# EAGLE library part RJ45-8P8C (library A10 Library)
PCB RJ45 8P8C Femlae Jack/Socket Connector 180 degree vertical https://www.aliexpress.com/item/32918645271.html?spm=a2g0o.order_list.0.0.49471802RMJK7Q
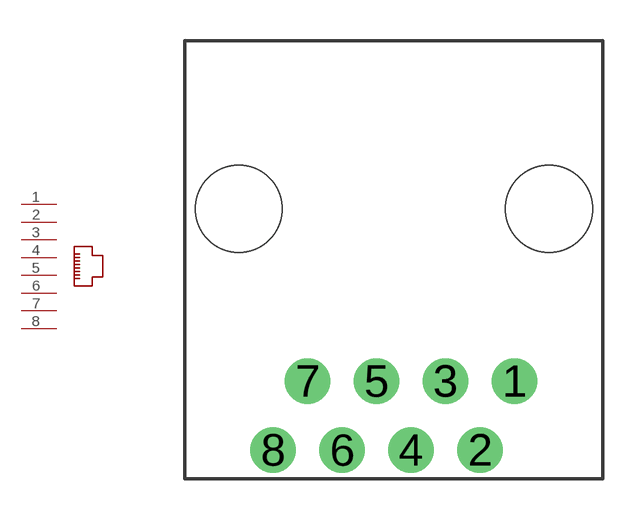
[diagram p2: symbol with the pads of RJ45-8P8C; footprint RJ45-8P8C]

Designator prefix -

## RJ45-8P8C  [RJ45-8P8C]
1  1
2  2
3  3
4  4
5  5
6  6
7  7
8  8

## Footprint RJ45-8P8C (pad centres in mm)
drill 0.9 pad 1.676: 1 4.445,-6.35; 2 3.175,-8.89; 3 1.905,-6.35; 4 0.635,-8.89; 5 -0.635,-6.35; 6 -1.905,-8.89; 7 -3.175,-6.35; 8 -4.445,-8.89
hole 3.2 at -5.715,0
hole 3.2 at 5.715,0